# Altium schematic symbol library Crystal.SchLib: 1 symbol
Pins are listed as number, name and electrical type; pins without a type are passive.

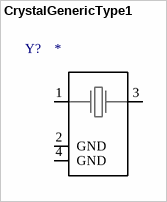
[diagram p0: symbol CrystalGenericType1]

## CrystalGenericType1
designator Y?
Name: *
pins: 1, 2 GND, 3, 4 GND